# Altium schematic symbol library Elements_LT.SchLib: 95 symbols
Pins are listed as number, name and electrical type; pins without a type are passive.

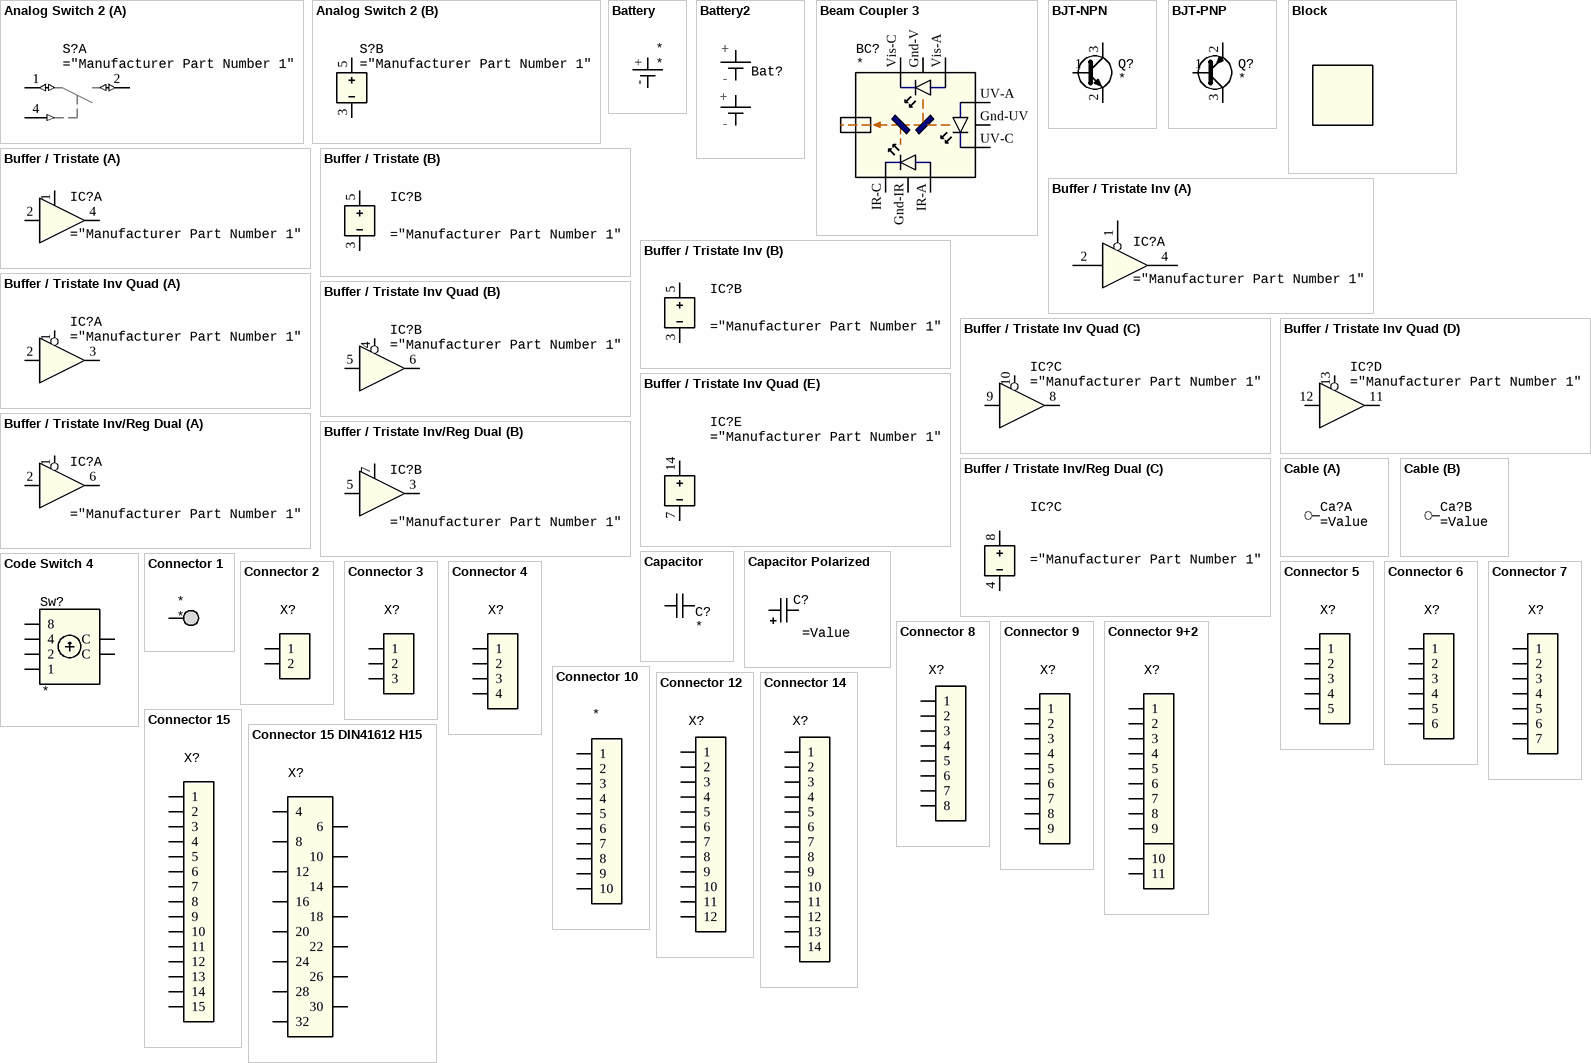
[diagram p0: symbols Analog Switch 2 to Connector 15 DIN41612 H15]

## Analog Switch 2
designator S?
footprint SOT23-5_N (SOT23, 5-Leads, Body 2,90x2,80mm, Pitch 0,95mm, IPC Medium Density)
part A pins: 1 NO (io), 2 COM (io), 4 IN (in)
part B pins: 3 - (power), 5 + (power)

## Battery
designator *
pins: + (power), - (power)

## Battery2
designator Bat?
footprint 1049P (Battery Holder; 2x18650; Polarized; THM)
pins: +1 (power), +2 (power), -1 (power), -2 (power)
text: +; -

## Beam Coupler 3
designator BC?
Beam Coupler, 3 LEDs
pins: Gnd-IR, Gnd-UV, Gnd-V Gnd-Vis, IR-A, IR-C, UV-A, UV-C, Vis-A, Vis-C

## BJT-NPN
designator Q?
--; Value: *; Manufacturer 1: *; Manufacturer Part Number 1: *
footprint SOIC127P590X175-8N (SOIC, 8-Leads, Body 4.90x3.90mm, Pitch 1.27mm, IPC Medium Density)
footprint PowerPAK-SO-8 (SOIC, 8-Leads, PowerPAK, Body 4.90x6.15mm, Pitch 1.27mm, IPC Medium Density)
footprint SOT23-3N (SOT23, 3-Leads, Body 2,90x2,80mm, Pitch 0,95mm, IPC Medium Density)
pins: 1 B, 2 E, 3 C

## BJT-PNP
designator Q?
--; Value: *; Manufacturer 1: *; Manufacturer Part Number 1: *
footprint SOT23-3N (SOT23, 3-Leads, Body 2,90x2,80mm, Pitch 0,95mm, IPC Medium Density)
footprint PowerPAK-SO-8 (SOIC, 8-Leads, PowerPAK, Body 4.90x6.15mm, Pitch 1.27mm, IPC Medium Density)
footprint SOIC127P590X175-8N (SOIC, 8-Leads, Body 4.90x3.90mm, Pitch 1.27mm, IPC Medium Density)
pins: 1 B, 2 E, 3 C

## Block
designator ?
Mechanical component; Value: *; Manufacturer 1: *; Manufacturer Part Number 1: *

## Buffer / Tristate
designator IC?
Buffer / Tristate, Single, with Output Enable
footprint SOT23-5_N (SOT23, 5-Leads, Body 2,90x2,80mm, Pitch 0,95mm, IPC Medium Density)
part A pins: 1 /OE, 2 1A, 4 1Y
part B pins: 3 Gnd (power), 5 Vdd (power)

## Buffer / Tristate Inv
designator IC?
Buffer / Tristate, Single, inverse Output Enable
footprint SOT23-5_N (SOT23, 5-Leads, Body 2,90x2,80mm, Pitch 0,95mm, IPC Medium Density)
part A pins: 1 /OE, 2 1A, 4 1Y
part B pins: 3 Gnd (power), 5 Vdd (power)

## Buffer / Tristate Inv Quad
designator IC?
Buffer / Tristate, Quad, inverse Output Enable
part A pins: 1 /OE, 2 1A, 3 1Y
part B pins: 4 /OE, 5 2A, 6 2Y
part C pins: 8 3Y, 9 3A, 10 /OE
part D pins: 11 4Y, 12 4A, 13 /OE
part E pins: 7 Gnd (power), 14 Vdd (power)

## Buffer / Tristate Inv/Reg Dual
designator IC?
Buffer / Tristate, Dual, with inverse / regular Output Enable
footprint SOT23-5_N (SOT23, 5-Leads, Body 2,90x2,80mm, Pitch 0,95mm, IPC Medium Density)
part A pins: 1 1/OE, 2 1A, 6 1Y
part B pins: 3 2Y, 5 2A, 7 2OE
part C pins: 4 Gnd (power), 8 Vdd (power)

## Cable
designator Ca?
Cable, assembled; Value: * *mm * *; ERP: *; Length: *; Terminal A: *; Color: *; Wires: *; Terminal B: *
part A pins: 1a, 1b
part B pins: 2a, 2b

## Capacitor
designator C?
Capacitor; Value: * * *V; Capacitance: *; Tolerance: *; Type: *; Voltage: *
footprint C0603N (Capacitor, SMD, 0603/ 1608)
footprint C0805N (Capacitor, SMD, 0805 / 2012)
footprint C1206N (Capacitor, SMD, 1206 / 3216)
footprint C-THT0.1 (Capacitor, THT, Pitch 100mil)
footprint C-THT0.275 (Capacitor, THT, Radial, Pitch 7.5mm)
footprint C1210N (Chip Capacitor, 2-Leads, Body 3.30x2.50mm, IPC Medium Density)
footprint C-THT0.1/0.2 (Capacitor, THT, Pitch 100mil)
footprint C0402N (Capacitor, SMD, 0402 / 1005)
footprint C2220N (Footprint not found)
pins: 1, 2

## Capacitor Polarized
designator C?
Capacitor, Polarized; Value: * * *V; Capacitance: *; Tolerance: *; Type: *; Voltage: *
footprint C1210N-POL (Chip Capacitor, 2-Leads, Body 3.30x2.50mm, IPC Medium Density)
footprint C-RAD6.3-SMD (Capacitor, Radial Can, SMD, Diameter 6.3mm)
footprint C-RAD4.0-SMD (Capacitor, Radial Can A5, SMD, Diameter 4.0mm)
footprint C-RAD8.0-SMD (Capacitor, Radial Can F, SMD, Diameter 8.0mm)
pins: +, -

## Code Switch 4
designator Sw?
pins: 1, 2, 4, 8, C, C

## Connector 1
designator *
pins: 1

## Connector 2
designator X?
pins: 1, 2
3 alternate drawings of the same symbol

## Connector 3
designator X?
footprint HDR1X3 (Connector; Header; 3 Position)
footprint HDR1X3RA (Connector; Header; 3 Position; Right Angle)
pins: 1, 2, 3
2 alternate drawings of the same symbol

## Connector 4
designator X?
pins: 1, 2, 3, 4
1 alternate drawing of the same symbol

## Connector 5
designator X?
pins: 1, 2, 3, 4, 5
1 alternate drawing of the same symbol

## Connector 6
designator X?
pins: 1, 2, 3, 4, 5, 6
1 alternate drawing of the same symbol

## Connector 7
designator X?
pins: 1, 2, 3, 4, 5, 6, 7
1 alternate drawing of the same symbol

## Connector 8
designator X?
pins: 1, 2, 3, 4, 5, 6, 7, 8

## Connector 9
designator X?
Value: *
pins: 1, 2, 3, 4, 5, 6, 7, 8, 9

## Connector 9+2
designator X?
Value: *
footprint DSub-2H9-F-90deg-US (Connector; D Subminiature; 9 Position; Right Angle; Pitch 1.385 mm; Female; US)
footprint DSub-2H9-M-90deg-US (Connector; D Subminiature; 9 Position; Right Angle; Pitch 1.385 mm; Male; US)
pins: 1, 2, 3, 4, 5, 6, 7, 8, 9, 10, 11

## Connector 10
designator *
pins: 1, 2, 3, 4, 5, 6, 7, 8, 9, 10
1 alternate drawing of the same symbol

## Connector 12
designator X?
pins: 1, 2, 3, 4, 5, 6, 7, 8, 9, 10, 11, 12
1 alternate drawing of the same symbol

## Connector 14
designator X?
pins: 1, 2, 3, 4, 5, 6, 7, 8, 9, 10, 11, 12, 13, 14
1 alternate drawing of the same symbol

## Connector 15
designator X?
footprint DSub-2H15-F-PCB-EDGE (Connector; D Subminiature; 15 Position; PCB edge mount)
footprint DSub-2H15-M-PCB-EDGE (Connector; D Subminiature; 15 Position; PCB edge mount)
footprint DSUB-2H15-F-90deg-EU (Connector; D Subminiature; 15 Position; Right Angle; Pitch 1.385 mm; Female; EU)
footprint DSub-2H15-F-90deg-US (Connector; D Subminiature; 15 Position; Right Angle; Pitch 1.385 mm; Female; US)
pins: 1, 2, 3, 4, 5, 6, 7, 8, 9, 10, 11, 12, 13, 14, 15
1 alternate drawing of the same symbol

## Connector 15 DIN41612 H15
designator X?
footprint DIN41612-H15 (DIN41612 Power Connector H15)
pins: 4, 6, 8, 10, 12, 14, 16, 18, 20, 22, 24, 26, 28, 30, 32
1 alternate drawing of the same symbol

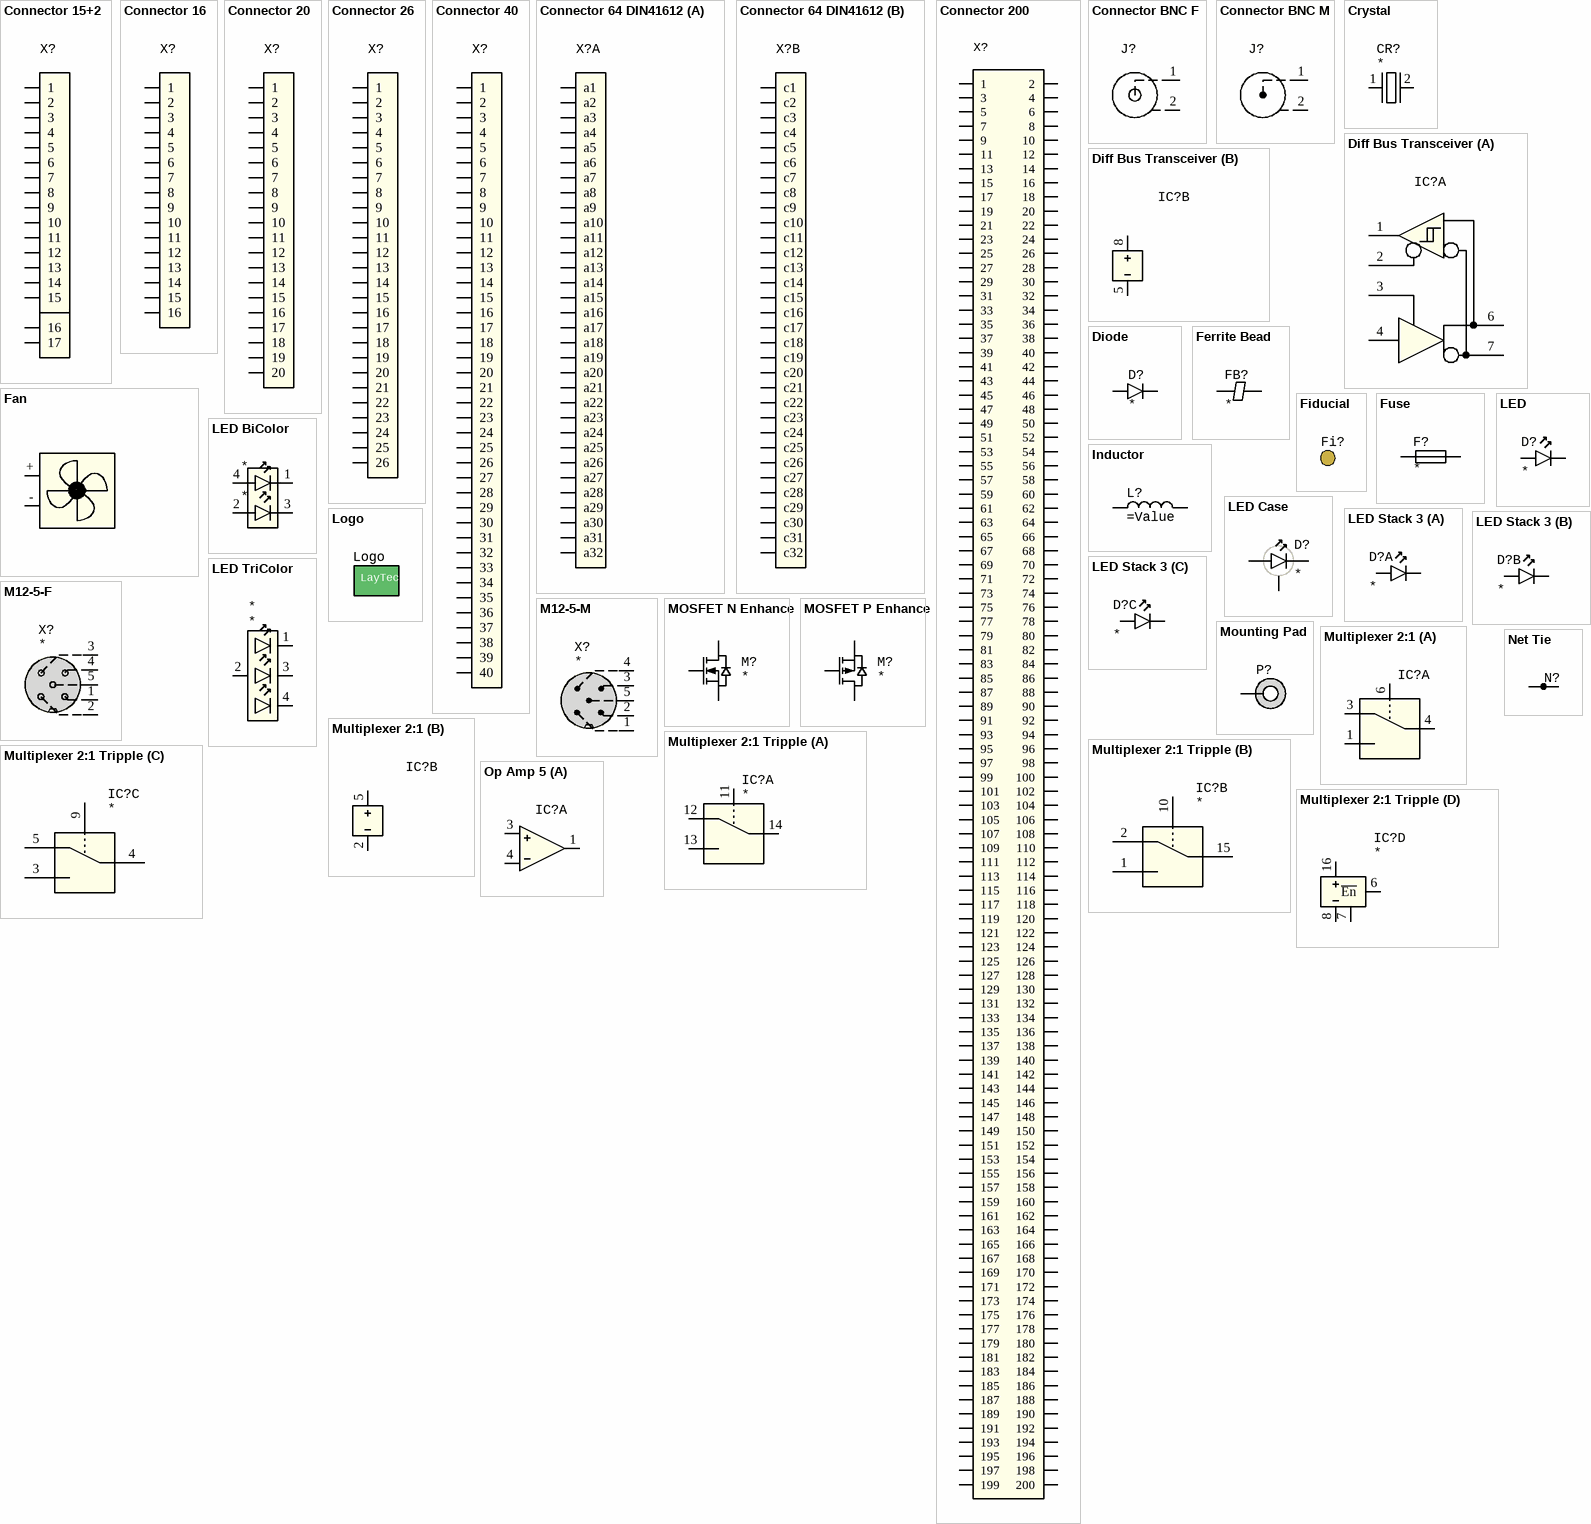
[diagram p1: symbols Connector 15+2 to Op Amp 5]

## Connector 15+2
designator X?
Value: *
footprint DSub-2H15-F-90deg-US (Connector; D Subminiature; 15 Position; Right Angle; Pitch 1.385 mm; Female; US)
footprint DSub-2H15-M-90deg-US (Connector; D Subminiature; 15 Position; Right Angle; Pitch 1.385 mm; Male; US)
pins: 1, 2, 3, 4, 5, 6, 7, 8, 9, 10, 11, 12, 13, 14, 15, 16, 17

## Connector 16
designator X?
pins: 1, 2, 3, 4, 5, 6, 7, 8, 9, 10, 11, 12, 13, 14, 15, 16
2 alternate drawings of the same symbol

## Connector 20
designator X?
Value: *
footprint HDR2X10 (Connector; Header; 10x2 Position)
footprint HDR2x10-SMD (Connector; Header; 10x2 Position, SMD)
pins: 1, 2, 3, 4, 5, 6, 7, 8, 9, 10, 11, 12, 13, 14, 15, 16, 17, 18, 19, 20
1 alternate drawing of the same symbol

## Connector 26
designator X?
Value: *
pins: 1, 2, 3, 4, 5, 6, 7, 8, 9, 10, 11, 12, 13, 14, 15, 16, 17, 18, 19, 20, 21, 22, 23, 24, 25, 26
1 alternate drawing of the same symbol

## Connector 40
designator X?
Value: *
footprint HDR2X20-BOXED (Connector; Header; 20x2 Position)
pins: 1, 2, 3, 4, 5, 6, 7, 8, 9, 10, 11, 12, 13, 14, 15, 16, 17, 18, 19, 20, 21, 22, 23, 24, 25, 26, 27, 28, 29, 30, 31, 32, 33, 34, 35, 36, 37, 38, 39, 40
1 alternate drawing of the same symbol

## Connector 64 DIN41612
designator X?
Connector, 64 Pins, DIN 41612
footprint DIN41612C-64-RA-M (Connector; DIN 41612, Type C, Thru-Hole; Rows a+c, 64 Position; Right Angle)
footprint DIN41612C-64-VT-F (Connector; DIN 41612, Type C, Thru-Hole; Rows a+c, 64 Position; Vertical)
part A pins: a1, a2, a3, a4, a5, a6, a7, a8, a9, a10, a11, a12, a13, a14, a15, a16, a17, a18, a19, a20, a21, a22, a23, a24, a25, a26, a27, a28, a29, a30, a31, a32
part B pins: c1, c2, c3, c4, c5, c6, c7, c8, c9, c10, c11, c12, c13, c14, c15, c16, c17, c18, c19, c20, c21, c22, c23, c24, c25, c26, c27, c28, c29, c30, c31, c32

## Connector 200
designator X?
Value: *
pins: 1, 2, 3, 4, 5, 6, 7, 8, 9, 10, 11, 12, 13, 14, 15, 16, 17, 18, 19, 20, 21, 22, 23, 24, 25, 26, 27, 28, 29, 30, 31, 32, 33, 34, 35, 36, 37, 38, 39, 40, 41, 42, 43, 44, 45, 46, 47, 48, 49, 50, 51, 52, 53, 54, 55, 56, 57, 58, 59, 60, 61, 62, 63, 64, 65, 66, 67, 68, 69, 70, 71, 72, 73, 74, 75, 76, 77, 78, 79, 80, 81, 82, 83, 84, 85, 86, 87, 88, 89, 90, 91, 92, 93, 94, 95, 96, 97, 98, 99, 100, 101, 102, 103, 104, 105, 106, 107, 108, 109, 110, 111, 112, 113, 114, 115, 116, 117, 118, 119, 120, 121, 122, 123, 124, 125, 126, 127, 128, 129, 130, 131, 132, 133, 134, 135, 136, 137, 138, 139, 140, 141, 142, 143, 144, 145, 146, 147, 148, 149, 150, 151, 152, 153, 154, 155, 156, 157, 158, 159, 160, 161, 162, 163, 164, 165, 166, 167, 168, 169, 170, 171, 172, 173, 174, 175, 176, 177, 178, 179, 180, 181, 182, 183, 184, 185, 186, 187, 188, 189, 190, 191, 192, 193, 194, 195, 196, 197, 198, 199, 200

## Connector BNC F
designator J?
Female BNC Connector
pins: 1, 2

## Connector BNC M
designator J?
Male BNC Connector
pins: 1, 2

## Crystal
designator CR?
Crystal, 2 Pins; Manufacturer Part Number 1: *; Manufacturer 1: *
footprint C1206N (Capacitor, SMD, 1206 / 3216)
pins: 1, 2

## Diff Bus Transceiver
designator IC?
Diff Bus Transceiver
footprint SOIC127P590X175-8N (SOIC, 8-Leads, Body 4.90x3.90mm, Pitch 1.27mm, IPC Medium Density)
part A pins: 1 /OE, 2 1A, 3 DE, 4 D, 6 A, 7 B
part B pins: 5 Gnd (power), 8 Vdd (power)

## Diode
designator D?
Diode, General Purpose / Small Signal
footprint SOD123N (Diode, 1.70x3.50mm, SMT)
footprint SOD323N (Diode, 1.8x1.4mm, SMT)
footprint R0603N (Resistor, SMD, 0603 / 1608)
footprint R0805N (Resistor, SMD, 0805 / 2012)
pins: A, C

## Fan
designator Fan?
Generic DC Fan; Value: *
pins: +, -

## Ferrite Bead
designator FB?
Ferrite Bead; Value: *
footprint R0603N
footprint R0805N (Resistor, SMD, 0805 / 2012)
pins: 1, 2

## Fiducial
designator Fi?  (value not drawn)  (no BOM)
Fiducial
footprint Fiducial

## Fuse
designator F?
Fuse; Value: *
footprint F508 (Fuse, THT, Pitch 5.08mm)
footprint R0603N
footprint F-Skt-5x20 (Socket, THT, for fuse 5x20 mm)
footprint R0805N (Resistor, SMD, 0805 / 2012)
footprint R1206N (Resistor, SMD, 1206 / 3216)
footprint R1210N (Resistor, SMD, 1210 / 3225)
footprint R1812N (Resistor, SMD, 1812 / 4532)
pins: 1, 2

## Inductor
designator L?
Inductor; Value: ="Inductance"+H+"Current"+A; Inductance: *; Current: *; Manufacturer Part Number 1: *; Manufacturer 1: *
footprint INDP3030X15N (Wire Wound Inductor, 3.00x3.00mm)
footprint INDP125125X50N (Wire Wound Inductor, 12.50x12.50mm)
footprint INDP5959X51N (Wire Wound Inductor, 5.90x5.90mm)
footprint INDP138132X52N (Wire Wound Inductor, 13.80x13.20mm)
pins: 1, 2
1 alternate drawing of the same symbol

## LED
designator D?
LED; Value: *
footprint D508P660H2 (Diode, Single, 3 Pins, Pitch 5.08mm)
footprint PLCC2 (Molded Diode, 2-Leads, Body 3,50x2,80mm, IPC Medium Density)
footprint D254P870 (Diode, Single, Pitch 2.54mm)
footprint D0603N (LED, SMD, 0603 / 1608)
pins: A, C

## LED BiColor
designator *
footprint PLCC4 (Molded Diode, 4-Leads, Body 3,50x2,80mm, IPC Medium Density)
pins: 1, 2, 3, 4

## LED Case
designator D?
LED with separate Case Pin; Value: *
footprint D254P660H3 (Diode, Single, 3 Pins, Pitch 2.54mm)
footprint PLCC2 (Molded Diode, 2-Leads, Body 3,50x2,80mm, IPC Medium Density)
pins: A, C, G

## LED Stack 3
designator D?
LED Stack 3; Value: *
footprint LED_STACK_3_TH_5X11 (LED Stack; 3 LEDs)
part A pins: A1, C1
part B pins: A2, C2
part C pins: A3, C3

## LED TriColor
designator *
footprint PLCC4 (Molded Diode, 4-Leads, Body 3,50x2,80mm, IPC Medium Density)
pins: 1, 2, 3, 4

## Logo
designator Logo  (value not drawn)  (no BOM)
LayTec Logo
footprint Logo-10 (LayTec Logo, 10mm, Overlay)
footprint Logo-5 (LayTec Logo, 5mm, Overlay)
footprint Logo-Cu-5 (LayTec Logo, 5mm, Copper)
footprint Logo-Cu-10 (LayTec Logo, 10mm, Copper)
text: LayTec

## M12-5-F
designator X?
M12 Connector, 5 Pins, F; Value: *
pins: 1, 2, 3, 4, 5

## M12-5-M
designator X?
M12 Connector, 5 Pins, M; Value: *
pins: 1, 2, 3, 4, 5

## MOSFET N Enhance
designator M?
MOSFET, N-Channel, Enhancement Mode; Manufacturer 1: *; Manufacturer Part Number 1: *; Value: *
footprint SOT23-3N (SOT23, 3-Leads, Body 2,90x2,80mm, Pitch 0,95mm, IPC Medium Density)
footprint SOT127P600X120-5N (SOT669, Power Device, 5-Leads, Body 4.90x6.00mm, Pitch 1.27mm, IPC Medium Density)
pins: 1 G, 2 S, 3 D
1 alternate drawing of the same symbol

## MOSFET P Enhance
designator M?
MOSFET, P-Channel, Enhancement Mode; Manufacturer 1: *; Manufacturer Part Number 1: *; Value: *
footprint SOT23-3N (SOT23, 3-Leads, Body 2,90x2,80mm, Pitch 0,95mm, IPC Medium Density)
footprint PowerPAK-SO-8 (SOIC, 8-Leads, PowerPAK, Body 4.90x6.15mm, Pitch 1.27mm, IPC Medium Density)
pins: 1 G, 2 S, 3 D
1 alternate drawing of the same symbol

## Mounting Pad
designator P?  (no BOM)
Mounting Pad
footprint HM2.5 (Mounting Hole 2.7mm / 5mm)
footprint HM3 (Mounting Hole 3.2mm / 6mm)
footprint HM5 (Mounting Hole 5.5mm / 10mm)
pins: 1

## Multiplexer 2:1
designator IC?
footprint SC70P210X110-6N (SC70, 6-Leads, Body 2.00x2.10mm, Pitch 0.65mm, IPC Medium Density)
footprint SOT23-6_N (SOT23, 6-Leads, Body 2,90x2,80mm, Pitch 0,95mm, IPC Medium Density)
part A pins: 1 In1, 3 In0, 4 Out, 6 S
part B pins: 2 Gnd (power), 5 Vcc (power)

## Multiplexer 2:1 Tripple
designator IC?
part A pins: 11 A, 12 1Y0, 13 1Y1, 14 1Com
part B pins: 1 2Y1, 2 2Y0, 10 B, 15 2Com
part C pins: 3 3Y1, 4 3Com, 5 3Y0, 9 C
part D pins: 6 ~{En}, 7 Gnd (power), 8 Gnd (power), 16 Vcc (power)

## Net Tie
designator N?, comment Tie  (value not drawn)  (net tie, no BOM)
Net Tie to connect Nets of different Names; Value: Tie
footprint NetTie1010 (Net Tie, 1x1mm)
footprint NetTie2020 (Net Tie, 2x2mm)
footprint NetTie0204 (Net Tie, 0.2 x 0.4mm)
footprint NetTie0505 (Net Tie, 1x1mm)
footprint NetTie0510 (Net Tie, 1x2mm)
pins: 1, 2

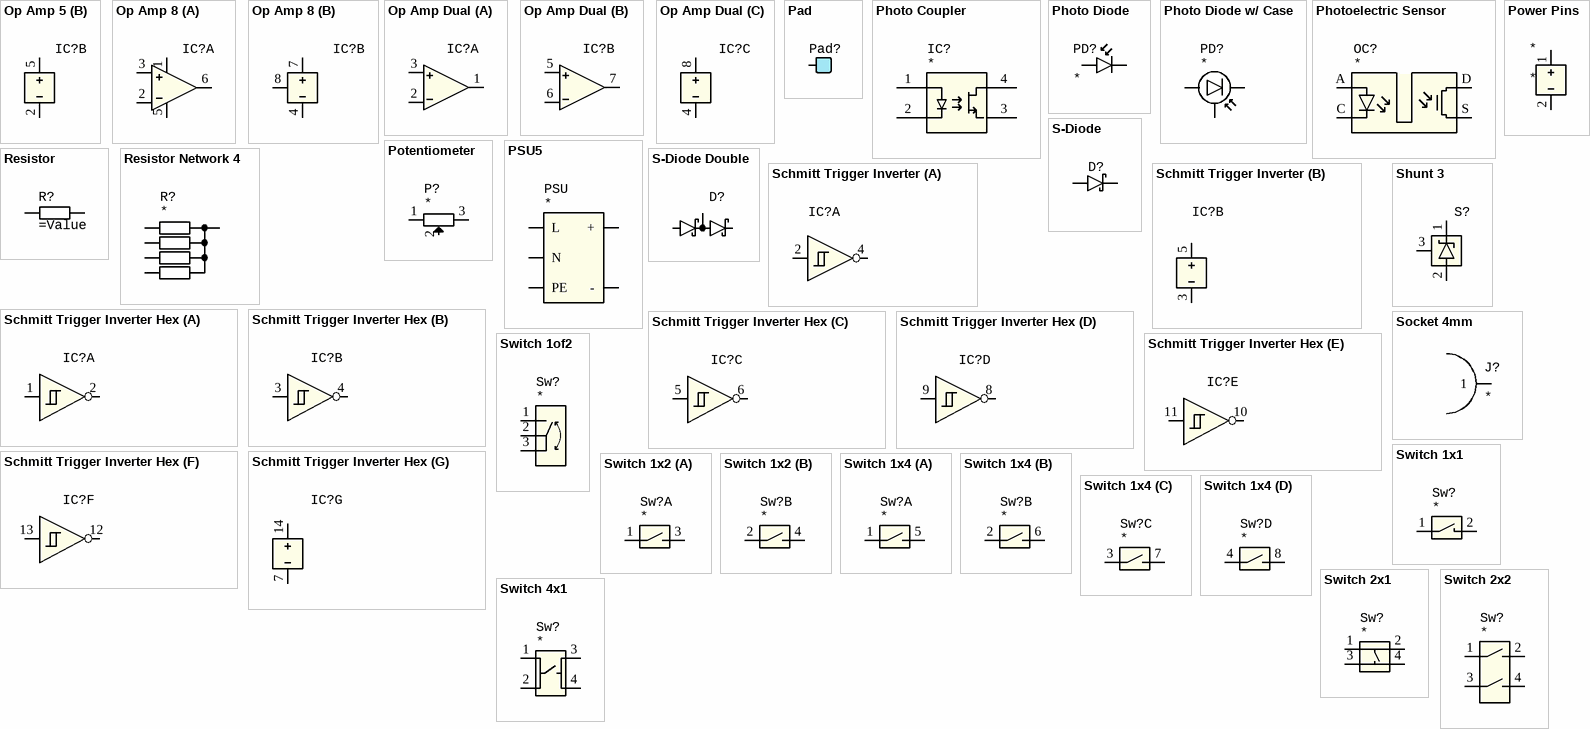
[diagram p2: symbols Op Amp 5 to Switch 4x1]

## Op Amp 5
designator IC?
footprint SOT23-5N (SOT23, 5-Leads, Body 2,90x2,80mm, Pitch 0,95mm, IPC Medium Density)
footprint SOIC127P590X175-8N (SOIC, 8-Leads, Body 4.90x3.90mm, Pitch 1.27mm, IPC Medium Density); pin to pad 1>6 2>4 4>2 5>7
part A pins: 1 Out, 3 In+, 4 In-
part B pins: 2 -, 5 +

## Op Amp 8
designator IC?
footprint DIP8 (DIP package, 8 Pins, Pitch 2.54mm)
footprint SOIC127P590X175-8N (SOIC, 8-Leads, Body 4.90x3.90mm, Pitch 1.27mm, IPC Medium Density)
part A pins: 1 NC, 2 In-, 3 In+, 5 NC, 6 Out
part B pins: 4 -, 7 +, 8 NC

## Op Amp Dual
designator IC?
footprint DIP8 (DIP package, 8 Pins, Pitch 2.54mm)
footprint SOIC127P590X175-8N (SOIC, 8-Leads, Body 4.90x3.90mm, Pitch 1.27mm, IPC Medium Density)
part A pins: 1 OutA, 2 InA-, 3 InA+
part B pins: 5 InB+, 6 InB-, 7 OutB
part C pins: 4 -, 8 +

## Pad
designator Pad?  (value not drawn)  (no BOM)
Pad
footprint Pad-2x2 (Pad, 2x2mm)
footprint Pad-M3 (Pad, 6mm, for M3)
footprint Pad-1x1 (Pad, 1x1mm)
footprint Pad-2x2TH (Pad, 2x2mm with 1.2mm hole for test prod)
pins: 1

## Photo Coupler
designator IC?
footprint SOP254P700X260-4N (SOP, 4-Leads, Body 3.60x4.40mm, Pitch 2.54mm, IPC Medium Density)
pins: 1 An, 2 Ca, 3 Em, 4 Co

## Photo Diode
designator PD?
Photo Diode
footprint D254P870 (Diode, Single, Pitch 2.54mm)
pins: A, C

## Photo Diode w/ Case
designator PD?
Photo Diode w/ Case
footprint D254P870 (Diode, Single, Pitch 2.54mm)
pins: A, C, Ch

## Photoelectric Sensor
designator OC?
Photoelectric Sensor; Value: *
pins: A, C, D, S

## Potentiometer
designator P?
Resistance: *
pins: 1 CCW, 2 Pot, 3 CW

## Power Pins
designator *
pins: 1 Vdd (power), 2 Gnd (power)

## PSU5
designator PSU
Generic PSU AC/DC
pins: 1 L, 2 N, 3 PE, 4 +, 5 -

## Resistor
designator R?
Resistor; Value: *; Resistance: *; Tolerance: *; Type: *; Power Dissipation: *; Temperature Coefficient: *; Voltage: *
footprint R0805N (Resistor, SMD, 0805 / 2012)
footprint R1206N (Resistor, SMD, 1206 / 3216)
footprint R1210N (Resistor, SMD, 1210 / 3225)
footprint R-RAD10.16 (Resistor, THT, Pitch 400mil / 10.16mm)
footprint R-RAD7.62 (Resistor, THT, Pitch 300mil / 7.62mm)
footprint R0603N (Resistor, SMD, 0603 / 1608)
footprint R0402N (Resistor, SMD, 0402 / 1005)
footprint R1812N (Resistor, SMD, 1812 / 4532)
footprint R2512N (Resistor, SMD, 2512 / 6432)
footprint R-RAD15.24 (Resistor, THT, Pitch 600mil / 15.24mm)
pins: 1, 2

## Resistor Network 4
designator R?
Resistor Network, 4 Resistors + 1 Termination; Value: *; Resistance: *
footprint R-AR0.1-5 (Resistor Array, THT, Pitch 100mil, 5 Pins)
pins: 1, 2, 3, 4, 5

## S-Diode
designator D?
Schottky Diode
footprint SOD123N (Diode, 1.70x3.50mm, SMT)
footprint SOD323N (Diode, 1.8x1.4mm, SMT)
pins: A, C

## S-Diode Double
designator D?
Double Schottky Diode
footprint SOT23-3_N (SOT23, 3-Leads, Body 2,90x2,80mm, Pitch 0,95mm, IPC Medium Density)
pins: 1 A, 2 C, 3 M

## Schmitt Trigger Inverter
designator IC?
footprint SOT23-5_N (SOT23, 5-Leads, Body 2,90x2,80mm, Pitch 0,95mm, IPC Medium Density)
part A pins: 2 A, 4 Y
part B pins: 3 Gnd (power), 5 Vdd (power)
1 alternate drawing of the same symbol

## Schmitt Trigger Inverter Hex
designator IC?
Schmitt Trigger Inverter Hex
part A pins: 1 1A, 2 1Y
part B pins: 3 2A, 4 2Y
part C pins: 5 3A, 6 3Y
part D pins: 8 4Y, 9 4A
part E pins: 10 5Y, 11 5A
part F pins: 12 6Y, 13 6A
part G pins: 7 Gnd (power), 14 VCC (power)

## Shunt 3
designator S?
footprint SOT23-3N (SOT23, 3-Leads, Body 2,90x2,80mm, Pitch 0,95mm, IPC Medium Density)
footprint TO92 (THT Package, 3 Pins, Pitch 50mil)
pins: 1 + (power), 2 - (power), 3 NC (power)

## Socket 4mm
designator J?
footprint BAN4 (Banana Jack; Receptable; 4mm)
pins: 1 (power)

## Switch 1of2
designator Sw?
Switch, 3 Pins
pins: 1, 2, 3

## Switch 1x1
designator Sw?
Switch, 2 Pins
pins: 1, 2

## Switch 1x2
designator Sw?
part A pins: 1, 3
part B pins: 2, 4

## Switch 1x4
designator Sw?
part A pins: 1, 5
part B pins: 2, 6
part C pins: 3, 7
part D pins: 4, 8

## Switch 2x1
designator Sw?
Switch, 4 Pins
footprint Tactile Switch (4 Pins)
pins: 1, 2, 3, 4

## Switch 2x2
designator Sw?
pins: 1, 2, 3, 4

## Switch 4x1
designator Sw?
pins: 1, 2, 3, 4

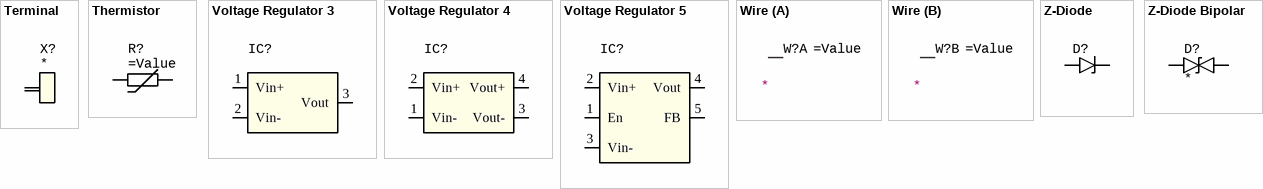
[diagram p3: symbols Terminal to Z-Diode Bipolar]

## Terminal
designator X?
Terminal Block
pins: 1

## Thermistor
designator R?
Thermistor; Value: *; Resistance: *; Tolerance: *; Type: *; Power Dissipation: *; Temperature Coefficient: *; Voltage: *
footprint R0805N (Resistor, SMD, 0805 / 2012)
footprint R1206N (Resistor, SMD, 1206 / 3216)
footprint R1210N (Resistor, SMD, 1210 / 3225)
footprint R-RAD0.4 (Resistor, THT, Pitch 400mil)
footprint R-RAD0.3 (Resistor, THT, Pitch 300mil)
footprint R0603N (Resistor, SMD, 0603 / 1608)
footprint R0402N (Resistor, SMD, 0402 / 1005)
footprint R1812N (Resistor, SMD, 1812 / 4532)
footprint F508 (Fuse, THT, Pitch 5.08mm)
pins: 1, 2

## Voltage Regulator 3
designator IC?
Voltage Regulator, 3 Pins
footprint TO92-50 (THT Package, 3 Pins, Pitch 50mil)
footprint SOT23-3N (SOT23, 3-Leads, Body 2,90x2,80mm, Pitch 0,95mm, IPC Medium Density)
footprint SIP3-DCDC (SIP Linear Regulator Replacement)
footprint SOT223-4N (SOT223, 4-Leads, Body 6,50x7,00mm (avg), Pitch 2,30mm, IPC Medium Density)
footprint TO92-100 (THT Package, 3 Pins, Pitch 100mil)
pins: 1 Vin+ (power), 2 Vin- (power), 3 Vout (power)

## Voltage Regulator 4
designator IC?
Voltage Regulator, 4 Pins
pins: 1 Vin- (power), 2 Vin+ (power), 3 Vout- (power), 4 Vout+ (power)

## Voltage Regulator 5
designator IC?
Voltage Regulator, 5 Pins
footprint SOT223-6_N (SOT223, 6-Leads, Body 6,50x7,00mm (avg), Pitch 1.27mm, IPC Medium Density)
pins: 1 En, 2 Vin+ (power), 3 Vin- (power), 4 Vout (power), 5 FB

## Wire
designator W?
Wire, 2 ends; Value: * *mm2 *mm * *; Length: *; Conductor Area: *; Terminal A: *; Color: *; Terminal B: *; Connection: *; ERP: *
part A pins: 1a, 1b
part B pins: 2a, 2b

## Z-Diode
designator D?
Zener Diode
footprint SOD123N (Diode, Body 1.70x3.50mm, SMD)
footprint SOD323N (Diode, SMD, Body 1.8x1.4mm)
footprint SMA (Diode, Body 2.9x4.8mm, SMD)
pins: A, C

## Z-Diode Bipolar
designator D?
footprint SMA (Diode, 2.9x4.8mm, SMT)
footprint SOD123N (Diode, 1.70x3.50mm, SMT)
footprint SOD323N (Diode, 1.8x1.4mm, SMT)
pins: A, C